# Altium schematic symbol library D24V25F3.SchLib: 1 symbol
Pins are listed as number, name and electrical type; pins without a type are passive.

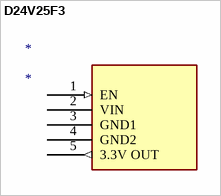
[diagram p0: symbol D24V25F3]

## D24V25F3
designator *
pins: 1 EN (in), 2 VIN (power), 3 GND1 (power), 4 GND2 (power), 5 3.3V OUT (out)